# Altium footprint library SOT23-6.PcbLib: 1 footprints
Each footprint in its own frame and in the unit in brackets; x right, y up, seen from the top. Pads: shape width x height; smd on the part's side, far side on the other; paste and mask are expansions set on the pad; w line width, h text height; cw(c..) or ccw(c..) is an arc to the next point about the centre after c.
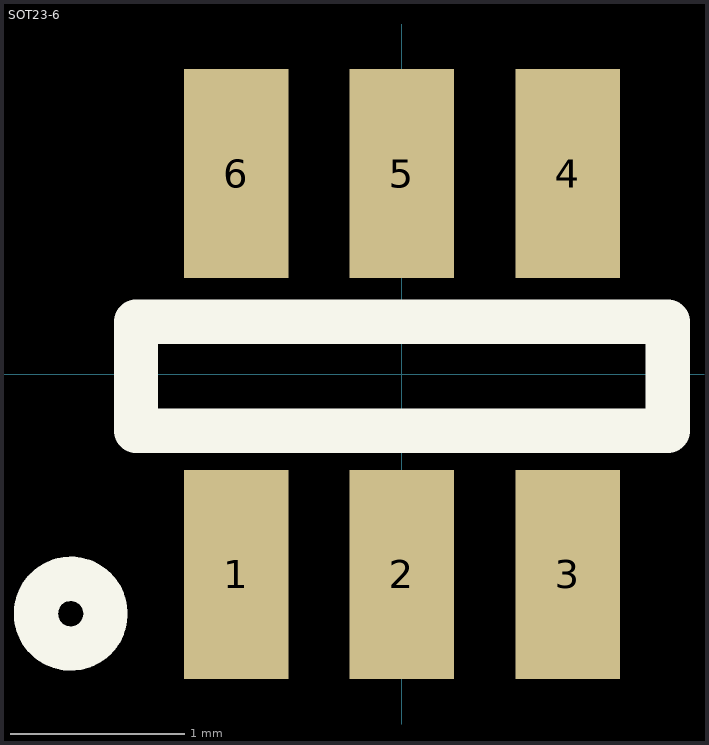
[diagram p0: the footprint, top view; thin cyan lines are the x and y axes]

## SOT23-6 [mm]
height 1.45
pads (6):
  rect 0.6x1.2 smd: 1(-0.95,-1.15) 2(0,-1.15) 3(0.95,-1.15) 4(0.95,1.15) 5(0,1.15) 6(-0.95,1.15)
Top Overlay:
  circle w0.254: c-1.9,-1.375 r0.2
  lines w0.254: -1.525,-0.325 -1.525,0.3 1.525,0.3 1.525,-0.325 -1.525,-0.325
3D body: height 1.4, standoff 0, extent -1.524,-1.5 1.524,1.5